# Altium footprint library 400150.PcbLib: 52 footprints (part 3 of 4)
Each footprint in its own frame and in the unit in brackets; x right, y up, seen from the top. Pads: shape width x height; smd on the part's side, far side on the other; paste and mask are expansions set on the pad; w line width, h text height; cw(c..) or ccw(c..) is an arc to the next point about the centre after c.
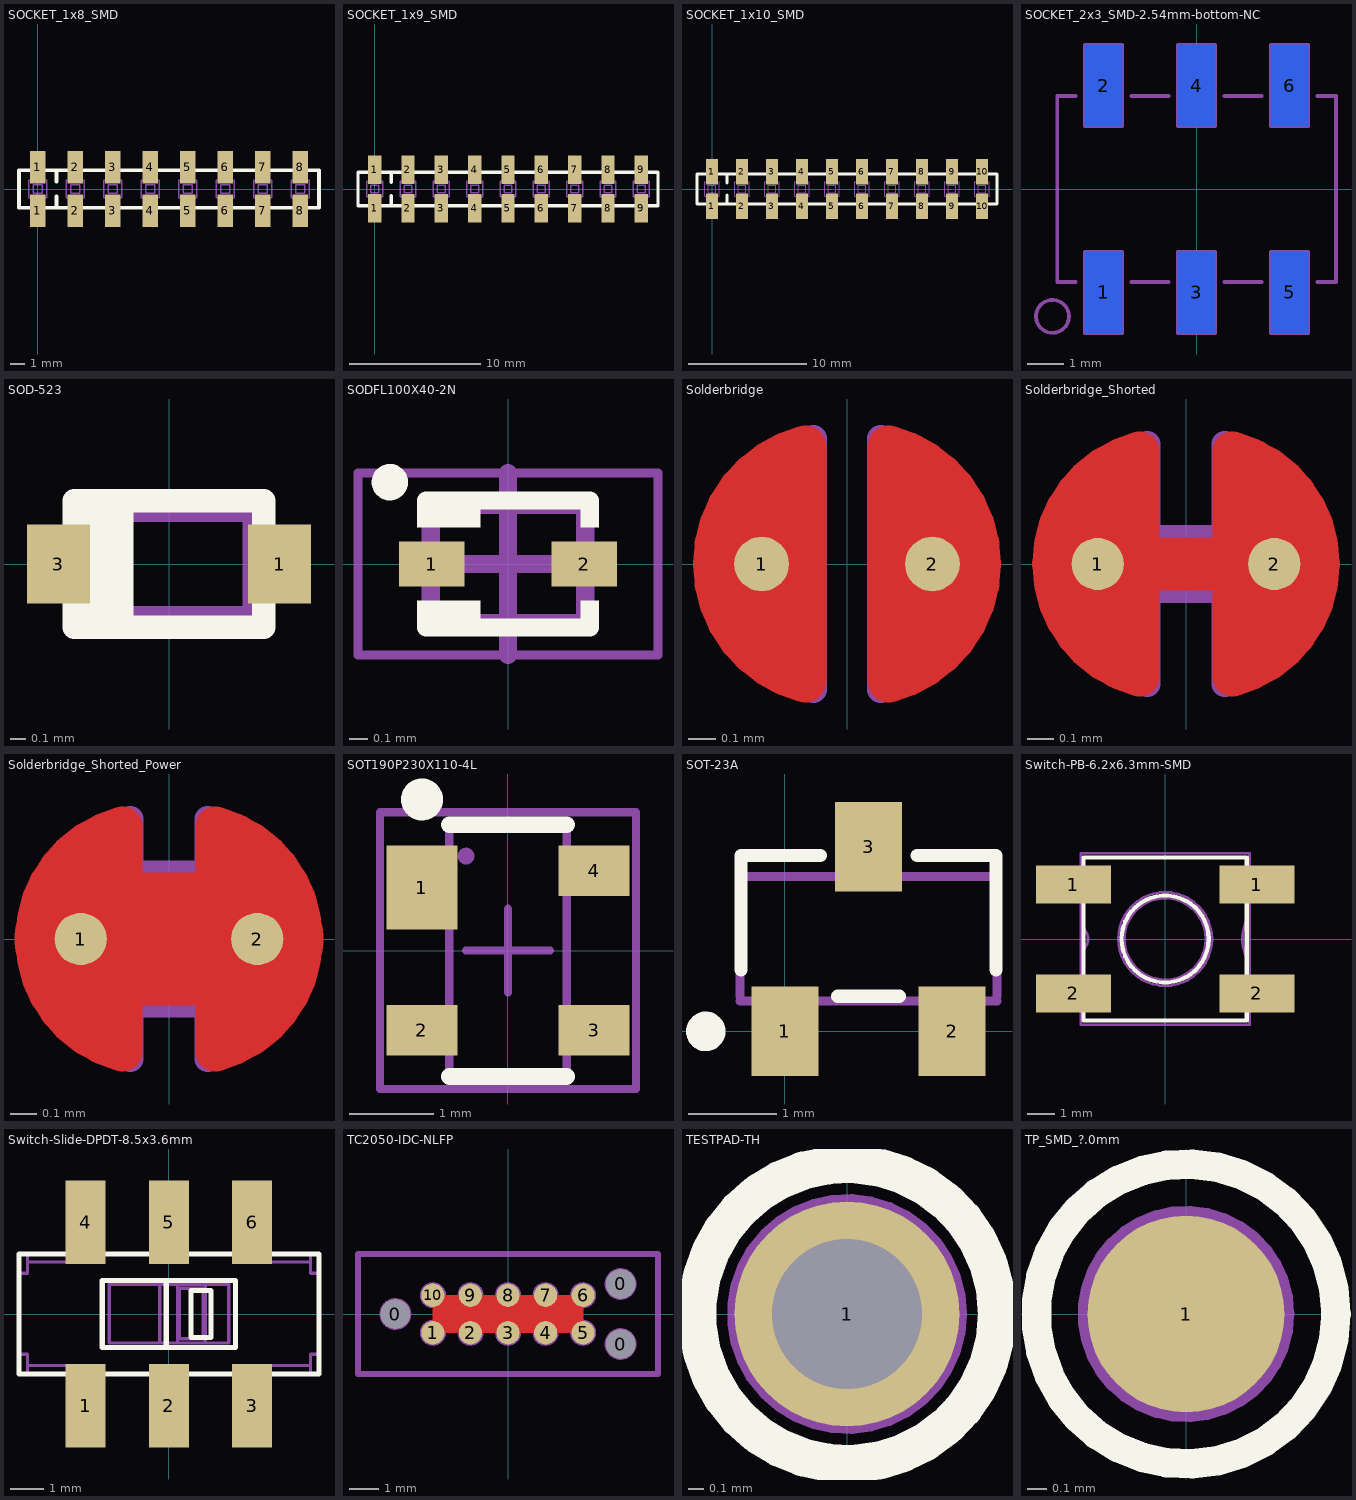
[diagram p2: the footprints below, top view; thin cyan lines are the x and y axes]

## SOCKET_1x8_SMD [mm]
pads (16):
  rect 1.02x2.19 smd: 1(0,-1.465) 1(0,1.465) 2(2.54,-1.465) 2(2.54,1.465) 3(5.08,-1.465) 3(5.08,1.465) 4(7.62,-1.465) 4(7.62,1.465) 5(10.16,-1.465) 5(10.16,1.465) 6(12.7,1.465) 6(12.7,-1.465) 7(15.24,-1.465) 7(15.24,1.465) 8(17.78,-1.465) 8(17.78,1.465)
Top Overlay:
  lines w0.254: 1.27,-1.27 1.27,-0.508 ; 1.27,0.508 1.27,1.27 ; -1.27,-1.27 -1.27,1.27 19.05,1.27 19.05,-1.27 -1.27,-1.27
Mechanical 7:
  lines w0.1: -0.35,-1.27 -0.35,-1.812 ccw(c0,-1.812) 0.35,-1.812 0.35,-1.27 ; 2.19,1.27 2.19,1.812 cw(c2.54,1.812) 2.89,1.812 2.89,1.27 ; 4.73,-1.27 4.73,-1.812 ccw(c5.08,-1.812) 5.43,-1.812 5.43,-1.27 ; 7.27,1.27 7.27,1.812 cw(c7.62,1.812) 7.97,1.812 7.97,1.27 ; 9.81,-1.27 9.81,-1.812 ccw(c10.16,-1.812) 10.51,-1.812 10.51,-1.27 ; 12.35,1.27 12.35,1.812 cw(c12.7,1.812) 13.05,1.812 13.05,1.27 ; 14.89,-1.27 14.89,-1.812 ccw(c15.24,-1.812) 15.59,-1.812 15.59,-1.27 ; 17.43,1.27 17.43,1.812 cw(c17.78,1.812) 18.13,1.812 18.13,1.27 ; -1.27,-1.27 -1.27,1.27 19.05,1.27 19.05,-1.27 -1.27,-1.27 ; -0.6,-0.6 -0.6,0.6 0.6,0.6 0.6,-0.6 -0.6,-0.6 ; -0.3,-0.3 -0.3,0.3 0.3,0.3 0.3,-0.3 -0.3,-0.3 ; 1.94,-0.6 1.94,0.6 3.14,0.6 3.14,-0.6 1.94,-0.6 ; 2.24,-0.3 2.24,0.3 2.84,0.3 2.84,-0.3 2.24,-0.3 ; 4.48,-0.6 4.48,0.6 5.68,0.6 5.68,-0.6 4.48,-0.6 ; 4.78,-0.3 4.78,0.3 5.38,0.3 5.38,-0.3 4.78,-0.3 ; 7.02,-0.6 7.02,0.6 8.22,0.6 8.22,-0.6 7.02,-0.6 ; 7.32,-0.3 7.32,0.3 7.92,0.3 7.92,-0.3 7.32,-0.3 ; 9.56,-0.6 9.56,0.6 10.76,0.6 10.76,-0.6 9.56,-0.6 ; 9.86,-0.3 9.86,0.3 10.46,0.3 10.46,-0.3 9.86,-0.3 ; 12.1,-0.6 12.1,0.6 13.3,0.6 13.3,-0.6 12.1,-0.6 ; 12.4,-0.3 12.4,0.3 13,0.3 13,-0.3 12.4,-0.3 ; 14.64,-0.6 14.64,0.6 15.84,0.6 15.84,-0.6 14.64,-0.6 ; 14.94,-0.3 14.94,0.3 15.54,0.3 15.54,-0.3 14.94,-0.3 ; 17.18,-0.6 17.18,0.6 18.38,0.6 18.38,-0.6 17.18,-0.6 ; 17.48,-0.3 17.48,0.3 18.08,0.3 18.08,-0.3 17.48,-0.3
  text ".Designator" at 8.534,-0.212 h0.38
3D body "Samtec-SSM-108-L-SV.step": height 7.47, standoff -0.03, extent -1.27,-2.286 19.05,2.286

## SOCKET_1x9_SMD [mm]
pads (18):
  rect 1.02x2.19 smd: 1(0,-1.465) 1(0,1.465) 2(2.54,-1.465) 2(2.54,1.465) 3(5.08,-1.465) 3(5.08,1.465) 4(7.62,-1.465) 4(7.62,1.465) 5(10.16,-1.465) 5(10.16,1.465) 6(12.7,1.465) 6(12.7,-1.465) 7(15.24,-1.465) 7(15.24,1.465) 8(17.78,-1.465) 8(17.78,1.465) 9(20.32,-1.465) 9(20.32,1.465)
Top Overlay:
  lines w0.254: 1.27,-1.27 1.27,-0.508 ; 1.27,0.508 1.27,1.27 ; -1.27,-1.27 -1.27,1.27 21.59,1.27 21.59,-1.27 -1.27,-1.27
Mechanical 7:
  lines w0.1: -0.35,-1.27 -0.35,-1.812 ccw(c0,-1.812) 0.35,-1.812 0.35,-1.27 ; 2.19,1.27 2.19,1.812 cw(c2.54,1.812) 2.89,1.812 2.89,1.27 ; 4.73,-1.27 4.73,-1.812 ccw(c5.08,-1.812) 5.43,-1.812 5.43,-1.27 ; 7.27,1.27 7.27,1.812 cw(c7.62,1.812) 7.97,1.812 7.97,1.27 ; 9.81,-1.27 9.81,-1.812 ccw(c10.16,-1.812) 10.51,-1.812 10.51,-1.27 ; 12.35,1.27 12.35,1.812 cw(c12.7,1.812) 13.05,1.812 13.05,1.27 ; 14.89,-1.27 14.89,-1.812 ccw(c15.24,-1.812) 15.59,-1.812 15.59,-1.27 ; 17.43,1.27 17.43,1.812 cw(c17.78,1.812) 18.13,1.812 18.13,1.27 ; 19.97,-1.27 19.97,-1.812 ccw(c20.32,-1.812) 20.67,-1.812 20.67,-1.27 ; -1.27,-1.27 -1.27,1.27 21.59,1.27 21.59,-1.27 -1.27,-1.27 ; -0.6,-0.6 -0.6,0.6 0.6,0.6 0.6,-0.6 -0.6,-0.6 ; -0.3,-0.3 -0.3,0.3 0.3,0.3 0.3,-0.3 -0.3,-0.3 ; 1.94,-0.6 1.94,0.6 3.14,0.6 3.14,-0.6 1.94,-0.6 ; 2.24,-0.3 2.24,0.3 2.84,0.3 2.84,-0.3 2.24,-0.3 ; 4.48,-0.6 4.48,0.6 5.68,0.6 5.68,-0.6 4.48,-0.6 ; 4.78,-0.3 4.78,0.3 5.38,0.3 5.38,-0.3 4.78,-0.3 ; 7.02,-0.6 7.02,0.6 8.22,0.6 8.22,-0.6 7.02,-0.6 ; 7.32,-0.3 7.32,0.3 7.92,0.3 7.92,-0.3 7.32,-0.3 ; 9.56,-0.6 9.56,0.6 10.76,0.6 10.76,-0.6 9.56,-0.6 ; 9.86,-0.3 9.86,0.3 10.46,0.3 10.46,-0.3 9.86,-0.3 ; 12.1,-0.6 12.1,0.6 13.3,0.6 13.3,-0.6 12.1,-0.6 ; 12.4,-0.3 12.4,0.3 13,0.3 13,-0.3 12.4,-0.3 ; 14.64,-0.6 14.64,0.6 15.84,0.6 15.84,-0.6 14.64,-0.6 ; 14.94,-0.3 14.94,0.3 15.54,0.3 15.54,-0.3 14.94,-0.3 ; 17.18,-0.6 17.18,0.6 18.38,0.6 18.38,-0.6 17.18,-0.6 ; 17.48,-0.3 17.48,0.3 18.08,0.3 18.08,-0.3 17.48,-0.3 ; 19.72,-0.6 19.72,0.6 20.92,0.6 20.92,-0.6 19.72,-0.6 ; 20.02,-0.3 20.02,0.3 20.62,0.3 20.62,-0.3 20.02,-0.3
  text ".Designator" at 11.713,0.178 h0.38
3D body "Samtec-SSM-109-L-SV.step": height 7.47, standoff 0.05, extent -1.26,-2.297 21.6,2.275

## SOCKET_1x10_SMD [mm]
pads (20):
  rect 1.02x2.19 smd: 1(0,-1.465) 1(0,1.465) 2(2.54,-1.465) 2(2.54,1.465) 3(5.08,-1.465) 3(5.08,1.465) 4(7.62,-1.465) 4(7.62,1.465) 5(10.16,-1.465) 5(10.16,1.465) 6(12.7,-1.465) 6(12.7,1.465) 7(15.24,-1.465) 7(15.24,1.465) 8(17.78,-1.465) 8(17.78,1.465) 9(20.32,-1.465) 9(20.32,1.465) 10(22.86,-1.465) 10(22.86,1.465)
Top Overlay:
  lines w0.254: 1.27,-1.27 1.27,-0.508 ; 1.27,0.508 1.27,1.27 ; -1.27,-1.27 -1.27,1.27 24.13,1.27 24.13,-1.27 -1.27,-1.27
Mechanical 7:
  lines w0.1: -0.35,-1.27 -0.35,-1.812 ccw(c0,-1.812) 0.35,-1.812 0.35,-1.27 ; 2.19,1.27 2.19,1.812 cw(c2.54,1.812) 2.89,1.812 2.89,1.27 ; 4.73,-1.27 4.73,-1.812 ccw(c5.08,-1.812) 5.43,-1.812 5.43,-1.27 ; 7.27,1.27 7.27,1.812 cw(c7.62,1.812) 7.97,1.812 7.97,1.27 ; 9.81,-1.27 9.81,-1.812 ccw(c10.16,-1.812) 10.51,-1.812 10.51,-1.27 ; 12.35,1.27 12.35,1.812 cw(c12.7,1.812) 13.05,1.812 13.05,1.27 ; 14.89,-1.27 14.89,-1.812 ccw(c15.24,-1.812) 15.59,-1.812 15.59,-1.27 ; 17.43,1.27 17.43,1.812 cw(c17.78,1.812) 18.13,1.812 18.13,1.27 ; 19.97,-1.27 19.97,-1.812 ccw(c20.32,-1.812) 20.67,-1.812 20.67,-1.27 ; 22.51,1.27 22.51,1.812 cw(c22.86,1.812) 23.21,1.812 23.21,1.27 ; -1.27,-1.27 24.13,-1.27 24.13,1.27 -1.27,1.27 -1.27,-1.27 ; -0.6,-0.6 0.6,-0.6 0.6,0.6 -0.6,0.6 -0.6,-0.6 ; -0.3,-0.3 0.3,-0.3 0.3,0.3 -0.3,0.3 -0.3,-0.3 ; 1.94,-0.6 3.14,-0.6 3.14,0.6 1.94,0.6 1.94,-0.6 ; 2.24,-0.3 2.84,-0.3 2.84,0.3 2.24,0.3 2.24,-0.3 ; 4.48,-0.6 5.68,-0.6 5.68,0.6 4.48,0.6 4.48,-0.6 ; 4.78,-0.3 5.38,-0.3 5.38,0.3 4.78,0.3 4.78,-0.3 ; 7.02,-0.6 8.22,-0.6 8.22,0.6 7.02,0.6 7.02,-0.6 ; 7.32,-0.3 7.92,-0.3 7.92,0.3 7.32,0.3 7.32,-0.3 ; 9.56,-0.6 10.76,-0.6 10.76,0.6 9.56,0.6 9.56,-0.6 ; 9.86,-0.3 10.46,-0.3 10.46,0.3 9.86,0.3 9.86,-0.3 ; 12.1,-0.6 13.3,-0.6 13.3,0.6 12.1,0.6 12.1,-0.6 ; 12.4,-0.3 13,-0.3 13,0.3 12.4,0.3 12.4,-0.3 ; 14.64,-0.6 15.84,-0.6 15.84,0.6 14.64,0.6 14.64,-0.6 ; 14.94,-0.3 15.54,-0.3 15.54,0.3 14.94,0.3 14.94,-0.3 ; 17.18,-0.6 18.38,-0.6 18.38,0.6 17.18,0.6 17.18,-0.6 ; 17.48,-0.3 18.08,-0.3 18.08,0.3 17.48,0.3 17.48,-0.3 ; 19.72,-0.6 20.92,-0.6 20.92,0.6 19.72,0.6 19.72,-0.6 ; 20.02,-0.3 20.62,-0.3 20.62,0.3 20.02,0.3 20.02,-0.3 ; 22.26,-0.6 23.46,-0.6 23.46,0.6 22.26,0.6 22.26,-0.6 ; 22.56,-0.3 23.16,-0.3 23.16,0.3 22.56,0.3 22.56,-0.3
  text ".Designator" at 11.691,0.192 h0.38
3D body "Samtec-SSM-110-L-SV.step": height 7.47, standoff -0.03, extent -1.27,-2.286 24.13,2.286

## SOCKET_2x3_SMD-2.54mm-bottom-NC [mm]
pads (6):
  rect 1.02x2.22 smd far side: 1(-2.54,-2.825) 2(-2.54,2.825) 3(0,-2.825) 4(0,2.825) 5(2.54,-2.825) 6(2.54,2.825)
Bottom Overlay:
  circle w0.508: c-3.936,-3.48 r0.254
  lines w0.254: -3.33,-2.54 -3.81,-2.54 -3.81,2.54 -3.33,2.54 ; -1.77,-2.54 -0.78,-2.54 ; -1.77,2.54 -0.78,2.54 ; 0.78,-2.54 1.77,-2.54 ; 0.78,2.54 1.77,2.54 ; 3.33,-2.54 3.81,-2.54 3.81,2.54 3.33,2.54
Mechanical 8:
  circle w0.1: c-3.936,-3.48 r0.45
  lines w0.1: -3.302,-2.54 -3.81,-2.54 -3.81,2.54 -3.302,2.54 ; -1.778,-2.54 -0.762,-2.54 ; -1.778,2.54 -0.762,2.54 ; 0.762,-2.54 1.778,-2.54 ; 0.762,2.54 1.778,2.54 ; 3.302,-2.54 3.81,-2.54 3.81,2.54 3.302,2.54 ; -3.05,-3.935 -2.03,-3.935 -2.03,-1.715 -3.05,-1.715 -3.05,-3.935 ; -3.05,1.715 -3.05,3.935 -2.03,3.935 -2.03,1.715 -3.05,1.715 ; -0.51,-3.935 0.51,-3.935 0.51,-1.715 -0.51,-1.715 -0.51,-3.935 ; -0.51,1.715 0.51,1.715 0.51,3.935 -0.51,3.935 -0.51,1.715 ; 2.03,-3.935 3.05,-3.935 3.05,-1.715 2.03,-1.715 2.03,-3.935 ; 2.03,1.715 3.05,1.715 3.05,3.935 2.03,3.935 2.03,1.715
  text ".Designator" at 0.089,0.492 h0.38

## SOD-523 [mm]
pads (2):
  rect 0.4x0.5 smd: 1(0.7,0) 3(-0.7,0)
Top Overlay:
  lines w0.15: -0.5,-0.4 -0.5,0.4 ; -0.4,-0.4 -0.4,0.4 ; -0.3,-0.4 -0.3,0.4 ; -0.6,-0.4 0.6,-0.4 0.6,0.4 -0.6,0.4 -0.6,-0.4
Mechanical 7:
  lines w0.1: -0.593,-0.147 -0.791,-0.147 -0.791,0.147 -0.593,0.147 ; 0.593,-0.147 0.791,-0.147 0.791,0.147 0.593,0.147 ; -0.593,-0.393 -0.516,-0.317 ; -0.593,-0.393 -0.593,0.393 ; -0.593,-0.393 0.593,-0.393 ; -0.593,0.393 -0.516,0.317 ; -0.593,0.393 0.593,0.393 ; -0.516,-0.317 0.517,-0.317 ; -0.516,-0.317 -0.516,0.317 ; -0.516,0.317 0.517,0.317 ; 0.517,-0.317 0.593,-0.393 ; 0.517,-0.317 0.517,0.317 ; 0.517,0.317 0.593,0.393 ; 0.593,-0.393 0.593,0.393
  text ".Designator" at 0.42,0.155 h0.3
3D body "User Library-SOD-523F.step": height 0.7, standoff 0, extent -0.8,-0.399 0.8,0.399

## SODFL100X40-2N [mm]
pads (2):
  rect 0.36x0.25 smd: 1(-0.42,0) 2(0.42,0)
Top Overlay:
  circle w0.1: c-0.65,0.45 r0.05
  rectangle: -0.5,0.2 -0.15,0.325
  rectangle: -0.5,-0.35 -0.15,-0.2
  rectangle: 0.4,-0.35 0.5,-0.2
  rectangle: 0.4,0.2 0.5,0.35
  lines w0.1: -0.45,-0.3 -0.45,-0.35 0.45,-0.35 0.45,-0.3 ; -0.45,0.3 -0.45,0.35 0.45,0.35 0.45,0.3
Mechanical 7:
  lines w0.1: -0.425,-0.325 0.425,-0.325 0.425,0.325 -0.425,0.325 -0.425,-0.325
  text ".Designator" at 0.32,0.177 h0.38
Mechanical 15:
  lines w0.05: -0.825,-0.5 -0.825,0.5 0.825,0.5 0.825,-0.5 -0.825,-0.5
  lines w0.1: -0.5,0 0.5,0 ; 0,-0.5 0,0.5
3D body "SODFL100X40-2N.step": height 0.4, standoff 0, extent -0.5,-0.325 0.5,0.325

## Solderbridge [mm]
pads (2):
  round 0.2 smd paste-10: 1(-0.312,0) 2(0.312,0)
Top Layer:
  region: 0.077,0.432 0.152,0.505 0.271,0.467 0.335,0.424 0.409,0.351 0.462,0.292 0.521,0.193 0.549,0.099 0.544,-0.122 0.518,-0.193 0.434,-0.33 0.351,-0.411 0.259,-0.469 0.157,-0.5 0.107,-0.483 0.077,-0.43
  region: -0.077,-0.432 -0.152,-0.505 -0.271,-0.467 -0.335,-0.424 -0.409,-0.351 -0.462,-0.292 -0.521,-0.193 -0.549,-0.099 -0.544,0.122 -0.518,0.193 -0.434,0.33 -0.351,0.411 -0.259,0.469 -0.157,0.5 -0.107,0.483 -0.077,0.43
  lines w0.152: -0.153,-0.431 cw(c-0.042,0) -0.153,0.431 ; 0.153,-0.431 ccw(c0.042,0) 0.153,0.431
Top Solder:
  circle w0.61: c-0.003,0 r0.279
Mechanical 7:
  lines w0.1: -0.123,-0.459 cw(c-0.042,0) -0.123,0.459 -0.123,-0.459 ; 0.123,-0.459 ccw(c0.042,0) 0.123,0.459 0.123,-0.459
  text ".Designator" at -0.616,0.118 h0.38

## Solderbridge_Shorted [mm]
pads (2):
  round 0.2 smd paste-10: 1(-0.338,0) 2(0.338,0)
Top Layer:
  region: 0.102,0.432 0.178,0.505 0.296,0.467 0.361,0.424 0.434,0.351 0.488,0.292 0.546,0.193 0.574,0.099 0.569,-0.122 0.544,-0.193 0.46,-0.33 0.376,-0.411 0.284,-0.469 0.183,-0.5 0.132,-0.483 0.102,-0.43
  region: -0.102,-0.432 -0.178,-0.505 -0.296,-0.467 -0.361,-0.424 -0.434,-0.351 -0.488,-0.292 -0.546,-0.193 -0.574,-0.099 -0.569,0.122 -0.544,0.193 -0.46,0.33 -0.376,0.411 -0.284,0.469 -0.183,0.5 -0.132,0.483 -0.102,0.43
  lines w0.152: -0.178,-0.431 cw(c-0.068,0) -0.178,0.431 ; 0.178,-0.431 ccw(c0.068,0) 0.178,0.431
  lines w0.203: -0.338,0 0.338,0
Top Solder:
  circle w0.61: c-0.028,0 r0.279
  circle w0.61: c0.028,0 r0.279
Mechanical 7:
  lines w0.1: -0.148,-0.459 cw(c-0.067,0) -0.148,0.459 -0.148,0.1 0.148,0.1 0.148,0.459 cw(c0.067,0) 0.148,-0.459 0.148,-0.1 -0.148,-0.1 -0.148,-0.459
  text ".Designator" at 2.136,0.206 h0.38

## Solderbridge_Shorted_Power [mm]
pads (2):
  round 0.2 smd paste-10: 1(-0.338,0) 2(0.338,0)
Top Layer:
  region: -0.102,-0.432 -0.178,-0.505 -0.296,-0.467 -0.361,-0.424 -0.434,-0.351 -0.488,-0.292 -0.546,-0.193 -0.574,-0.099 -0.569,0.122 -0.544,0.193 -0.46,0.33 -0.376,0.411 -0.284,0.469 -0.183,0.5 -0.132,0.483 -0.102,0.43
  region: 0.102,0.432 0.178,0.505 0.296,0.467 0.361,0.424 0.434,0.351 0.488,0.292 0.546,0.193 0.574,0.099 0.569,-0.122 0.544,-0.193 0.46,-0.33 0.376,-0.411 0.284,-0.469 0.183,-0.5 0.132,-0.483 0.102,-0.43
  lines w0.152: -0.178,-0.431 cw(c-0.068,0) -0.178,0.431 ; 0.178,-0.431 ccw(c0.068,0) 0.178,0.431
  lines w0.508: -0.338,0 0.338,0
Top Solder:
  circle w0.61: c0.028,0 r0.279
  circle w0.61: c-0.028,0 r0.279
Mechanical 7:
  lines w0.1: 0.148,-0.25 0.148,-0.459 ccw(c0.067,0) 0.148,0.459 0.148,0.25 -0.148,0.25 -0.148,0.459 ccw(c-0.067,0) -0.148,-0.459 -0.148,-0.25 0.175,-0.25
  text ".Designator" at -0.177,-0.645 h0.38

## SOT190P230X110-4L [mm]
pads (4):
  rect 0.85x1 smd: 1(-1.025,0.75)
  rect 0.85x0.6 smd: 2(-1.025,-0.95) 3(1.025,-0.95) 4(1.025,0.95)
Top Overlay:
  circle w0.25: c-1.025,1.8 r0.125
  lines w0.2: -0.7,-1.5 0.7,-1.5 ; -0.7,1.5 0.7,1.5
Mechanical 7:
  circle w0.1: c-0.5,1.125 r0.05
  lines w0.1: -0.7,-1.5 -0.7,1.5 0.7,1.5 0.7,-1.5 -0.7,-1.5
  text ".Designator" at 0.331,-0.539 h0.69
Mechanical 15:
  lines w0.1: -0.5,0 0.5,0 ; 0,-0.5 0,0.5 ; -1.525,-1.65 -1.525,1.65 1.525,1.65 1.525,-1.65 -1.525,-1.65
3D body "User Library-sot143.step": height 1, standoff 0, extent -1.21,-1.46 1.21,1.46

## SOT-23A [mil]
pads (3):
  rect 30x40 smd: 1(0,0) 2(74.8,0) 3(37.4,82.68)
Top Overlay:
  circle w9.84: c-35.43,0 r3.94
  lines w5.91: -19.68,27.56 -19.68,78.74 15.75,78.74 ; 23.62,15.75 51.18,15.75 ; 59.06,78.74 94.49,78.74 94.49,27.56
Mechanical 7:
  lines w3.94: -20.07,13.56 94.89,13.56 ; -20.07,15.75 -20.07,69.32 94.89,69.32 94.89,15.75
  lines w4.02: -8.27,13.56 -8.27,-7.51 8.27,-7.51 8.27,13.56 ; 29.13,69.32 29.13,90.18 45.67,90.18 45.67,69.32 ; 66.54,13.56 66.54,-7.51 83.07,-7.51 83.07,13.56
  text ".Designator" at 44.7,29.07 h15
3D body "User Library-sot23-1.step": height 39.37, standoff 0, extent -20.07,-4.72 94.89,87.41

## Switch-PB-6.2x6.3mm-SMD [mm]
pads (4):
  rect 2.75x1.4 smd: 1(-3.375,2) 1(3.375,2) 2(-3.375,-2) 2(3.375,-2)
Top Overlay:
  circle w0.152: c0,0 r1.601
  lines w0.152: -3,-3 -3,3 3,3 3,-3 -3,-3
Mechanical 7:
  circle w0.1: c0,0 r1.721
  circle w0.1: c0,0 r1.5
  lines w0.1: -3.3,-2.393 -3.3,-1.606 ; -3.3,1.606 -3.3,2.393 ; -3.1,-2.393 -3.6,-2.393 -3.6,-1.606 -3.1,-1.606 ; -3.1,-0.441 ccw(c-3.335,0) -3.1,0.441 ; -3.1,1.606 -3.6,1.606 -3.6,2.393 -3.1,2.393 ; 3.1,-2.393 3.6,-2.393 3.6,-1.606 3.1,-1.606 ; 3.1,-0.91 cw(c4.561,0) 3.1,0.91 ; 3.1,1.606 3.6,1.606 3.6,2.393 3.1,2.393 ; 3.3,-2.393 3.3,-1.606 ; 3.3,1.606 3.3,2.393 ; -3.1,-3.15 -3.1,3.15 3.1,3.15 3.1,-3.15 -3.1,-3.15
  text ".Designator" at 0.499,0.184 h0.38
3D body "Switch tact 6x6mm.stp": height 3.1, standoff 0, extent -4,-3 4,3.3

## Switch-Slide-DPDT-8.5x3.6mm [mm]
pads (6):
  rect 1.2x2.5 smd: 1(-2.5,-2.75) 2(0,-2.75) 3(2.5,-2.75) 4(-2.5,2.75) 5(0,2.75) 6(2.5,2.75)
Top Overlay:
  lines w0.152: -0.08,-1 -0.08,1 ; 1.24,0.7 0.66,0.7 0.66,-0.7 1.26,-0.7 1.26,0.7 ; -4.5,-1.8 4.5,-1.8 4.5,1.8 -4.5,1.8 -4.5,-1.8 ; -2,-1 2,-1 2,1 -2,1 -2,-1
Mechanical 7:
  lines w0.1: -4.5,-1.207 -4.245,-1.207 -4.245,-1.8 ; -4.5,1.221 -4.245,1.221 -4.245,1.813 ; -4.245,-1.545 -2.933,-1.545 -2.933,-1.8 ; -4.245,1.56 -2.933,1.56 -2.933,1.813 ; -2.791,-1.8 -2.791,-3.733 -2.185,-3.733 -2.185,-1.8 ; -2.791,1.813 -2.791,3.76 -2.185,3.76 -2.185,1.813 ; -0.308,-1.8 -0.308,-3.733 0.313,-3.733 0.313,-1.8 ; -0.308,1.813 -0.308,3.76 0.313,3.76 0.313,1.813 ; -0.279,-0.868 -0.279,0.896 ; 0.257,-0.868 0.257,0.896 ; 1.089,-0.868 1.089,0.896 ; 2.19,-1.8 2.19,-3.733 2.797,-3.733 2.797,-1.8 ; 2.19,1.813 2.19,3.76 2.797,3.76 2.797,1.813 ; 2.939,-1.8 2.939,-1.545 4.25,-1.545 ; 2.939,1.813 2.939,1.56 4.25,1.56 ; 4.25,-1.8 4.25,-1.207 4.505,-1.207 ; 4.25,1.813 4.25,1.221 4.505,1.221 ; -4.5,-1.8 -4.5,1.813 4.505,1.813 4.505,-1.8 -4.5,-1.8 ; -1.79,-0.868 -1.79,0.896 1.795,0.896 1.795,-0.868 -1.79,-0.868 ; 0.313,-0.742 0.313,0.769 1.033,0.769 1.033,-0.742 0.313,-0.742
  text ".Designator" at -4.234,-0.175 h0.38
3D body: height 3.48, standoff 3, extent -2,1 2,1.8
3D body: height 3.48, standoff 3, extent -2,-1.8 2,-1
3D body: height 3.48, standoff 3, extent 2,-1.8 4.5,1.8
3D body: height 3.5, standoff 3.48, extent 2,-1 4.5,1
3D body: height 3.5, standoff 3.48, extent -4.5,-1.8 4.5,-1
3D body: height 3.5, standoff 3.48, extent -4.5,-1 -2,1
3D body: height 0.9, standoff 0, extent 2.2,-1.825 2.8,-1.675
3D body: height 0.15, standoff 0, extent 2.2,-3.75 2.8,-1.8
3D body: height 0.15, standoff 0, extent -0.3,-3.75 0.3,-1.8
3D body: height 0.9, standoff 0, extent -0.3,-1.825 0.3,-1.675
3D body: height 0.15, standoff 0, extent -2.8,-3.75 -2.2,-1.8
3D body: height 0.9, standoff 0, extent -2.8,-1.825 -2.2,-1.675
3D body: height 0.15, standoff 0, extent -4.2,1.2 -3.9,1.5
3D body: height 0.15, standoff 0, extent 3.9,1.2 4.2,1.5
3D body: height 0.15, standoff 0, extent 3.9,-1.5 4.2,-1.2
3D body: height 0.15, standoff 0, extent -4.2,-1.5 -3.9,-1.2
3D body: height 3, standoff 0.9, extent -4.5,-1.8 4.5,1.8
3D body: height 3.05, standoff 3, extent -2,-1 2,1
3D body: height 5.5, standoff 1.75, extent -0.08,-1 2,1
3D body: height 3.48, standoff 3, extent -4.5,-1.8 -2,1.8
3D body: height 3.5, standoff 2.63, extent 4.5,-1.2 4.52,1.2
3D body: height 2.63, standoff 1.75, extent 4.5,-1.7 4.52,1.7
3D body: height 2.63, standoff 1.75, extent -4.52,-1.7 -4.5,1.7
3D body: height 3.5, standoff 2.63, extent -4.52,-1.2 -4.5,1.2
3D body: height 0.9, standoff 0, extent 2.2,1.675 2.8,1.825
3D body: height 0.15, standoff 0, extent 2.2,1.8 2.8,3.75
3D body: height 0.9, standoff 0, extent -0.3,1.675 0.3,1.825
3D body: height 0.15, standoff 0, extent -0.3,1.8 0.3,3.75
3D body: height 3.5, standoff 3.48, extent -4.5,1 4.5,1.8
3D body: height 0.15, standoff 0, extent -2.8,1.8 -2.2,3.75
3D body: height 0.9, standoff 0, extent -2.8,1.675 -2.2,1.825
3D body: height 0.9, standoff 0.15, extent -4.3,-1.6 4.3,1.675

## TC2050-IDC-NLFP [mil]
pads (13):
  round 39 hole 39 unplated: 0(-150,0) 0(150,-40) 0(150,40)
  round 31 smd paste-196.85: 1(-100,-25) 2(-50,-25) 3(0,-25) 4(50,-25) 5(100,-25) 6(100,25) 7(50,25) 8(0,25) 9(-50,25) 10(-100,25)
Top Layer:
  pour cut-out: -100,25 -100,-25 100,-25 100,25
Mechanical 7:
  circle w3.94: c-100,24.99 r15.45
  circle w3.94: c-100,-24.99 r15.45
  circle w3.94: c-50,-24.99 r15.45
  circle w3.94: c0,-24.99 r15.45
  circle w3.94: c0,24.99 r15.45
  circle w3.94: c-50,24.99 r15.45
  circle w3.94: c50,24.99 r15.45
  circle w3.94: c50,-24.99 r15.45
  circle w3.94: c100,-24.99 r15.45
  circle w3.94: c100,24.99 r15.45
  circle w3.94: c150,-39.98 r19.26
  circle w3.94: c150,39.98 r19.26
  circle w3.94: c-150,0 r19.26
  text ".Designator" at 174.26,15.3 h15
Mechanical 8:
  circle w3.94: c-150,0 r19.26
  circle w3.94: c150,39.98 r19.26
  circle w3.94: c150,-39.98 r19.26
Mechanical 15:
  lines w7.87: -199.8,-79.92 -199.8,79.92 199.8,79.92 199.8,-79.92 -199.8,-79.92

## TESTPAD-TH [mm]
pads (1):
  round 1.5 hole 1: 1(0,0)
Top Overlay:
  circle w0.254: c0,0 r1
Mechanical 7:
  circle w0.1: c0,0 r0.5
  circle w0.1: c0,0 r0.75
  circle w0.1: c0,0 r1
  text ".Designator" at -0.5,1.15 h0.38

## TP_SMD_?.0mm [mm]
pads (1):
  round 1 smd paste-5: 1(0,0)
Top Overlay:
  circle w0.15: c0,0 r0.762
Mechanical 7:
  circle w0.1: c0,0 r0.762
  circle w0.1: c0,0 r0.5
  text ".Designator" at -1.314,0.875 h0.38